# Altium footprint library 6.3_Audio_Jack.PcbLib: 1 footprints
Each footprint in its own frame and in the unit in brackets; x right, y up, seen from the top. Pads: shape width x height; smd on the part's side, far side on the other; paste and mask are expansions set on the pad; w line width, h text height; cw(c..) or ccw(c..) is an arc to the next point about the centre after c.
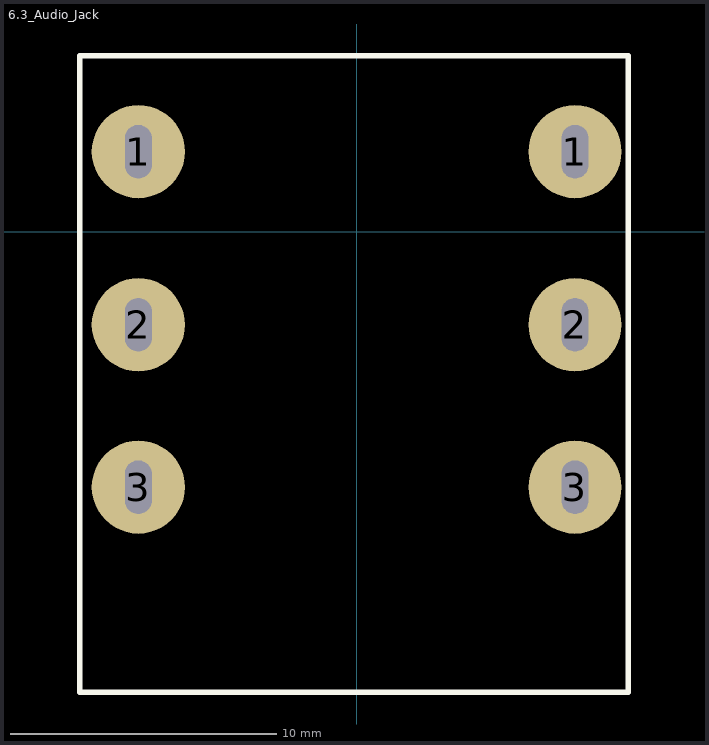
[diagram p0: the footprint, top view; thin cyan lines are the x and y axes]

## 6.3_Audio_Jack [mm]
pads (6):
  round 3.5 hole 1 slot 2 at 90 deg: 1(-8.2,3) 1(8.2,3) 2(-8.2,-3.5) 2(8.2,-3.5) 3(-8.2,-9.6) 3(8.2,-9.6)
Top Overlay:
  lines w0.2: -10.4,-17.3 10.2,-17.3 10.2,6.6 5.045,6.6 -4.655,6.6 -10.4,6.6 -10.4,-17.3
Top Assembly:
  lines w0.1: -5.1,6.6 10.2,6.6 10.2,-17.3 6.125,-17.3 -10.4,-17.3 -10.4,6.6 -3.85,6.6
  text "'.Designator'" at -0.925,-0.35 h0.7
3D body "User Library-6,3AudioJackInPCB-Female.STEP": height 21.49, standoff -2.34, extent -9.95,-17 9.95,15